# EAGLE library part MSP430G2*53?20R (library MasterPhonebot)
MSP430G2x53 Description The Texas Instruments MSP430 family of ultra-low-power microcontrollers consists of several devices featuring different sets of peripherals targeted for various applications. The architecture, combined with five low-power modes, is optimized to achieve extended battery life in portable measurement applications. The device features a powerful 16-bit RISC CPU, 16-bit registers, and constant generators that contribute to maximum code efficiency. The digitally controlled oscillator (DCO) allows wake-up from low-power modes to active mode in less than 1 µs. The MSP430G2x13 and MSP430G2x53 series are ultra-low-power mixed signal microcontrollers with built-in 16-bit timers, up to 24 I/O capacitive-touch enabled pins, a versatile analog comparator, and built-in communication capability using the universal serial communication interface. In addition the MSP430G2x53 family members have a 10-bit analog-to-digital (A/D) converter. For configuration details see . Typical applications include low-cost sensor systems that capture analog signals, convert them to digital values, and then process the data for display or for transmission to a host system. Features Low Supply-Voltage Range: 1.8 V to 3.6 V Ultra-Low Power Consumption Active Mode: 230 µA at 1 MHz, 2.2 V Standby Mode: 0.5 µA Off Mode (RAM Retention): 0.1 µA Five Power-Saving Modes Ultra-Fast Wake-Up From Standby Mode in Less Than 1 µs 16-Bit RISC Architecture, 62.5-ns Instruction Cycle Time Basic Clock Module Configurations Internal Frequencies up to 16 MHz With Four Calibrated Frequency Internal Very-Low-Power Low-Frequency (LF) Oscillator 32-kHz Crystal External Digital Clock Source Two 16-Bit Timer_A With Three Capture/Compare Registers Up to 24 Capacitive-Touch Enabled I/O Pins Universal Serial Communication Interface (USCI) Enhanced UART Supporting Auto Baudrate Detection (LIN) IrDA Encoder and Decoder Synchronous SPI I2C™ On-Chip Comparator for Analog Signal Compare Function or Slope Analog-to-Digital (A/D) Conversion 10-Bit 200-ksps Analog-to-Digital (A/D) Converter With Internal Reference, Sample-and-Hold, and Autoscan Brownout Detector Serial Onboard Programming, No External Programming Voltage Needed, Programmable Code Protection by Security Fuse On-Chip Emulation Logic With Spy-Bi-Wire Interface Package Options TSSOP: 20 Pin, 28 Pin PDIP: 20 Pin QFN: 32 Pin Details see: Datasheet <http://www.ti.com/lit/ds/symlink/msp430g2553.pdf> General Information: www.ti.com <http://www.ti.com/product/msp430g2553> Created: L.Lischke 2015-03-21 (c) KK-Prime Engineering GmbH
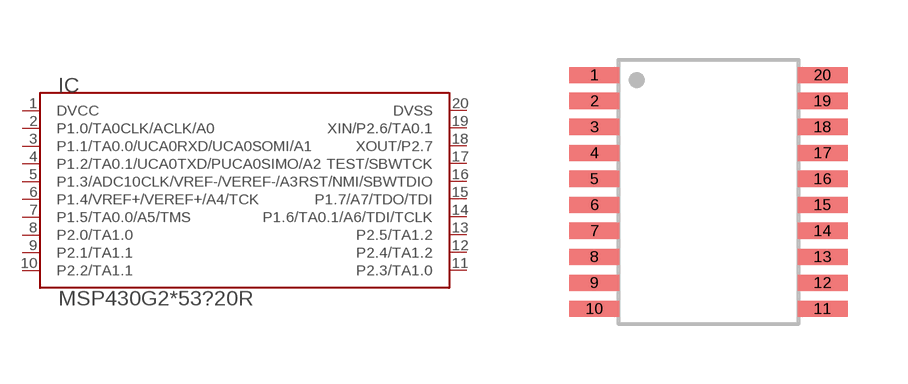
[diagram p16: symbol with the pads of SOP65P640X120-20L; footprint SOP65P640X120-20L]

Designator prefix IC

## MSP430G2153IPW20R, MSP430G2253IPW20R, MSP430G2353IPW20R, MSP430G2453IPW20R, MSP430G2553IPW20R  [SOP65P640X120-20L]
1  DVCC  pwr
2  P1.0/TA0CLK/ACLK/A0
3  P1.1/TA0.0/UCA0RXD/UCA0SOMI/A1
4  P1.2/TA0.1/UCA0TXD/PUCA0SIMO/A2
5  P1.3/ADC10CLK/VREF-/VEREF-/A3
6  P1.4/VREF+/VEREF+/A4/TCK
7  P1.5/TA0.0/A5/TMS
8  P2.0/TA1.0
9  P2.1/TA1.1
10  P2.2/TA1.1
11  P2.3/TA1.0
12  P2.4/TA1.2
13  P2.5/TA1.2
14  P1.6/TA0.1/A6/TDI/TCLK
15  P1.7/A7/TDO/TDI
16  RST/NMI/SBWTDIO
17  TEST/SBWTCK
18  XOUT/P2.7
19  XIN/P2.6/TA0.1
20  DVSS  pwr

## Footprint SOP65P640X120-20L (pad centres in mm)
20 Lead SOP Package: R-PDSO-G20 IPC: SOP65P640X120-20L Created: L.Lischke 2015-03-21 (c) KK-Prime Engineering GmbH
smd 1.25 x 0.4: 1 -2.85,2.925; 2 -2.85,2.275; 3 -2.85,1.625; 4 -2.85,0.975; 5 -2.85,0.325; 6 -2.85,-0.325; 7 -2.85,-0.975; 8 -2.85,-1.625; 9 -2.85,-2.275; 10 -2.85,-2.925; 11 2.85,-2.925; 12 2.85,-2.275; 13 2.85,-1.625; 14 2.85,-0.975; 15 2.85,-0.325; 16 2.85,0.325; 17 2.85,0.975; 18 2.85,1.625; 19 2.85,2.275; 20 2.85,2.925